# Altium footprint library 2049280301.PcbLib: 1 footprints
Each footprint in its own frame and in the unit in brackets; x right, y up, seen from the top. Pads: shape width x height; smd on the part's side, far side on the other; paste and mask are expansions set on the pad; w line width, h text height; cw(c..) or ccw(c..) is an arc to the next point about the centre after c.
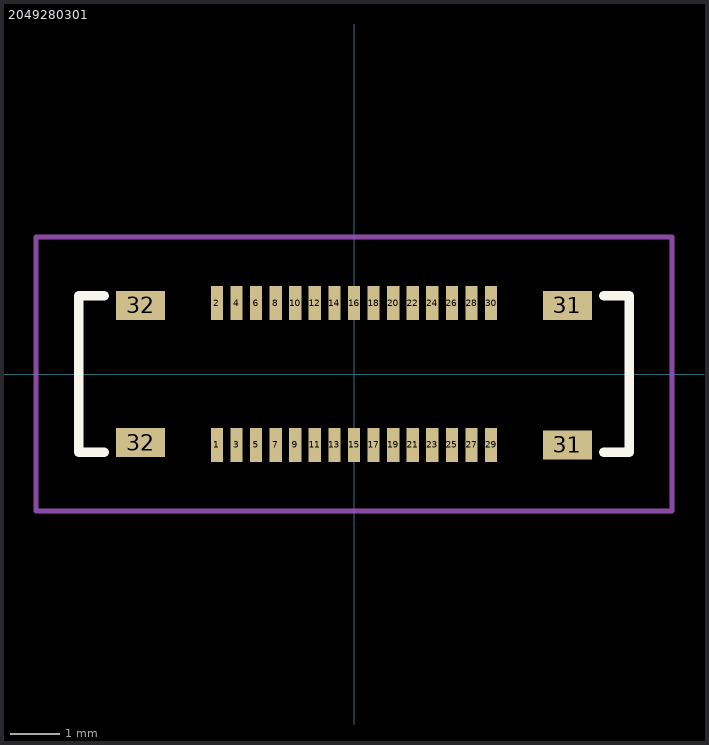
[diagram p0: the footprint, top view; thin cyan lines are the x and y axes]

## 2049280301 [mm] "SlimStack Board-to-Board. Plug, 0.40mm Pitch, FSB3 Floating Series, 3.00mm. Mated Height, 3.20 Mated Width, 30 Circuits"
pads (34):
  rect 0.25x0.7 smd: 1(-2.8,-1.45) 2(-2.8,1.45) 3(-2.4,-1.45) 4(-2.4,1.45) 5(-2,-1.45) 6(-2,1.45) 7(-1.6,-1.45) 8(-1.6,1.45) 9(-1.2,-1.45) 10(-1.2,1.45) 11(-0.8,-1.45) 12(-0.8,1.45) 13(-0.4,-1.45) 14(-0.4,1.45) 15(0,-1.45) 16(0,1.45) 17(0.4,-1.45) 18(0.4,1.45) 19(0.8,-1.45) 20(0.8,1.45) 21(1.2,-1.45) 22(1.2,1.45) 23(1.6,-1.45) 24(1.6,1.45) 25(2,-1.45) 26(2,1.45) 27(2.4,-1.45) 28(2.4,1.45) 29(2.8,-1.45) 30(2.8,1.45)
  rect 1x0.6 smd: 31(4.36,-1.45) 31(4.36,1.4) 32(-4.36,-1.4) 32(-4.36,1.4)
Top Overlay:
  lines w0.2: -5.1,-1.6 -5.625,-1.6 -5.625,1.6 -5.1,1.6 ; 5.1,-1.6 5.625,-1.6 5.625,1.6 5.1,1.6
Top Courtyard:
  lines w0.1: -6.5,-2.8 6.5,-2.8 6.5,2.8 -6.5,2.8 -6.5,-2.8
3D body "2049280301.stp": height 2.51, standoff 0, extent -5.5,-1.6 5.5,1.6